# Altium footprint library PCB - LEADED - SOP - ANALOG TSSOP-14 RU-14.PCBLIB: 1 footprints
Each footprint in its own frame and in the unit in brackets; x right, y up, seen from the top. Pads: shape width x height; smd on the part's side, far side on the other; paste and mask are expansions set on the pad; w line width, h text height; cw(c..) or ccw(c..) is an arc to the next point about the centre after c.
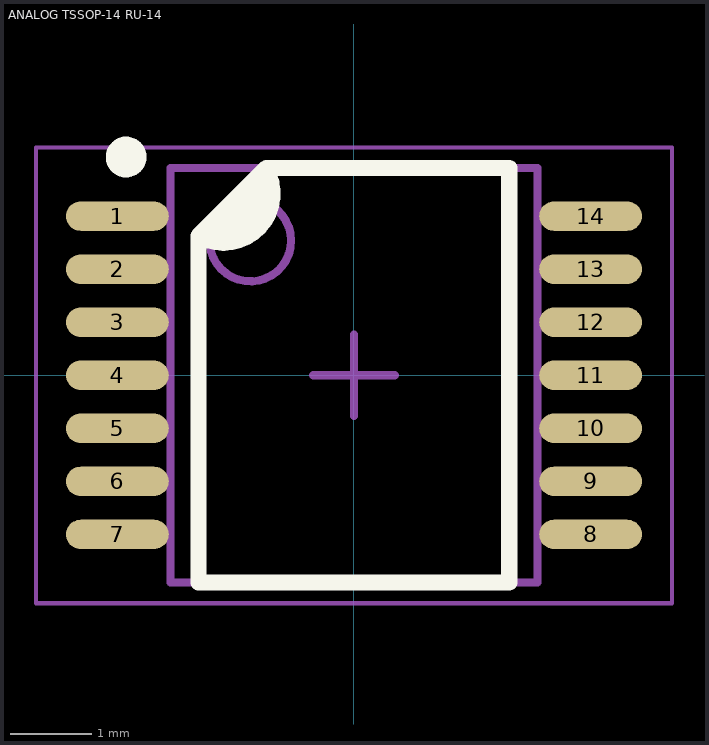
[diagram p0: the footprint, top view; thin cyan lines are the x and y axes]

## ANALOG TSSOP-14 RU-14 [mm] "TSSOP, 14-Leads, Body 5.00x4.40mm, Pitch 0.65mm, IPC Medium Density"
height 1.2
pads (14):
  oval 1.26x0.36 smd: 1(-2.9,1.95) 2(-2.9,1.3) 3(-2.9,0.65) 4(-2.9,0) 5(-2.9,-0.65) 6(-2.9,-1.3) 7(-2.9,-1.95) 8(2.9,-1.95) 9(2.9,-1.3) 10(2.9,-0.65) 11(2.9,0) 12(2.9,0.65) 13(2.9,1.3) 14(2.9,1.95)
Top Overlay:
  circle w0.25: c-2.792,2.675 r0.125
  region: -1.778,1.652 -1.695,1.626 -1.522,1.624 -1.356,1.67 -1.209,1.762 -1.094,1.891 -1.02,2.047 -0.993,2.218 -1.016,2.39 -1.051,2.469 -1.778,1.748
  lines w0.2: -1.881,1.695 ccw(c-1.6,2.225) -1.046,2.456 ; -1.905,-2.54 -1.905,1.707 -1.072,2.54 1.905,2.54 1.905,-2.54 -1.905,-2.54
Mechanical 13:
  circle w0.1: c-1.27,1.651 r0.5
  lines w0.1: -2.25,-2.54 2.25,-2.54 2.25,2.54 -2.25,2.54 -2.25,-2.54
Mechanical 15:
  lines w0.05: -3.9,-2.794 3.9,-2.794 3.9,2.794 -3.9,2.794 -3.9,-2.794
Mechanical 2 (Mech9):
  lines w0.1: -0.5,0 0.5,0 ; 0,-0.5 0,0.5
3D body "TSSOP-14.STEP": height 1.2, standoff 0, extent -3.21,-2.5 3.21,2.5